# Altium footprint library Capacitors.PcbLib: 10 footprints
Each footprint in its own frame and in the unit in brackets; x right, y up, seen from the top. Pads: shape width x height; smd on the part's side, far side on the other; paste and mask are expansions set on the pad; w line width, h text height; cw(c..) or ccw(c..) is an arc to the next point about the centre after c.
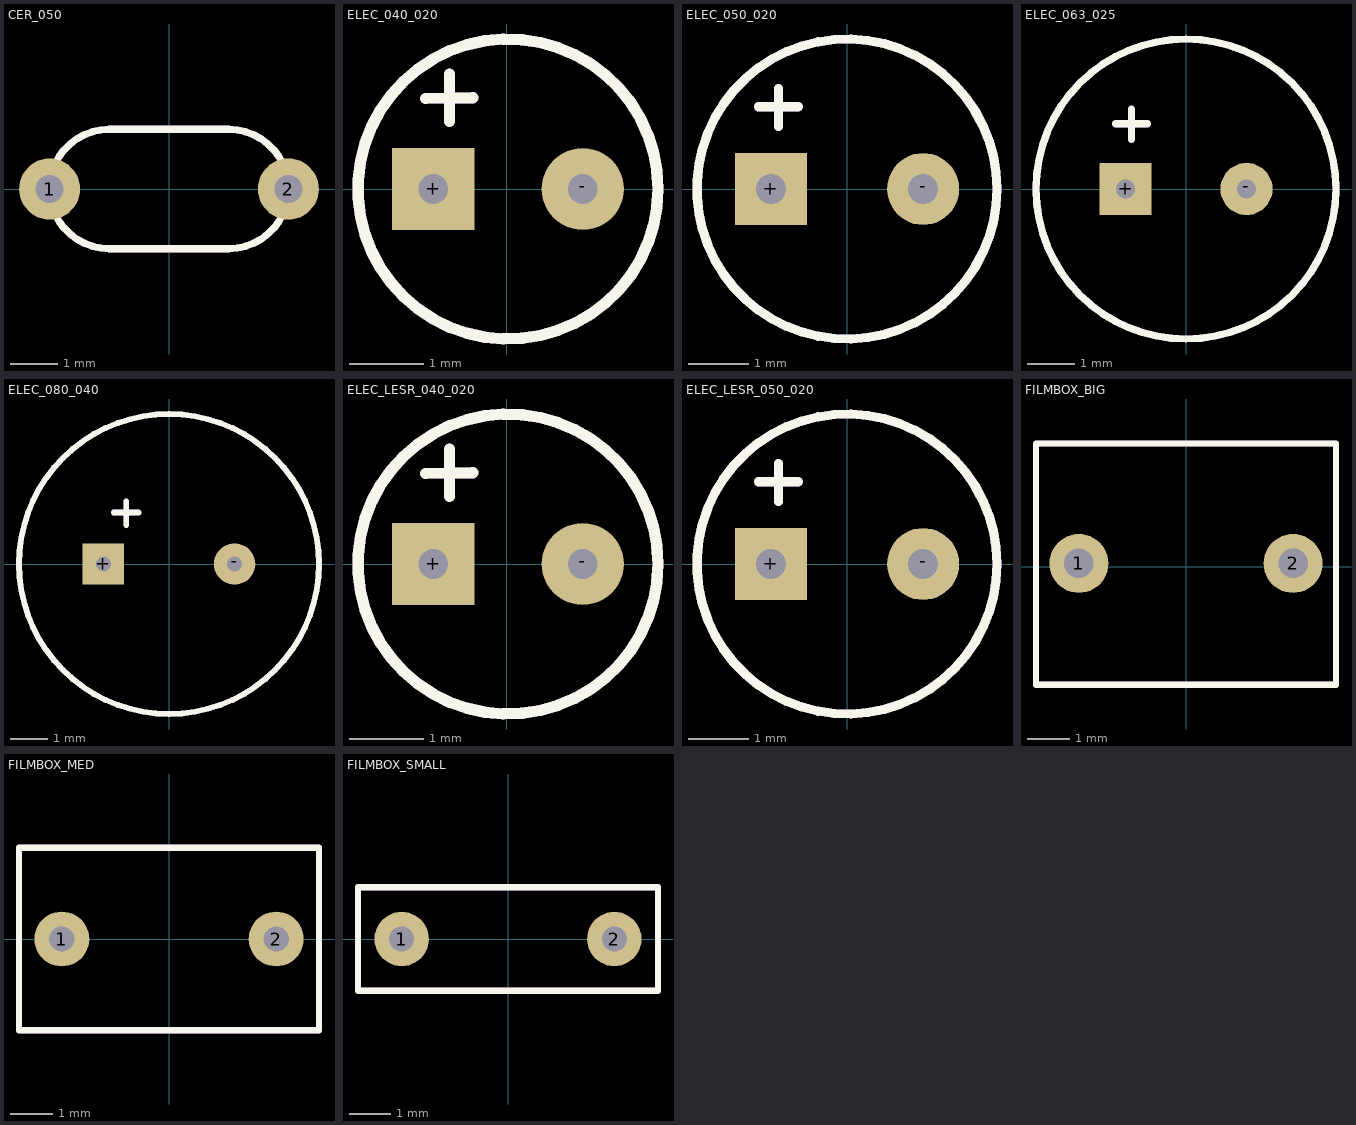
[diagram p0: the footprints below, top view; thin cyan lines are the x and y axes]

## CER_050 [mm]
pads (2):
  round 1.3 hole 0.6: 1(-2.54,0) 2(2.54,0)
Top Overlay:
  lines w0.152: -2.54,0 cw(c-1.27,0) -1.27,1.27 1.27,1.27 cw(c1.27,0) 2.54,0 cw(c1.27,0) 1.27,-1.27 0.635,-1.27 -1.27,-1.27 cw(c-1.27,0) -2.54,0
Mechanical 2:
  lines w0.152: -2.54,0 ccw(c-1.27,0) -1.27,-1.27 0.635,-1.27 1.27,-1.27 ccw(c1.27,0) 2.54,0 ccw(c1.27,0) 1.27,1.27 -1.27,1.27 ccw(c-1.27,0) -2.54,0
3D body: height 0.25, standoff 0, extent -2.972,1.676 -2.972,1.676
3D body: height 0.25, standoff 0, extent -2.591,1.27 -2.591,1.27
3D body "CER_050.STEP": height 4.98, standoff -4.02, extent -2.8,-1.25 2.8,1.25

## ELEC_040_020 [mil]
pads (2):
  rect 43.31x43.31 hole 15.75: +(-38.8,0)
  round 43.31 hole 15.75: -(40,0)
Top Overlay:
  circle w6: c0.6,0 r79.06
  lines w6: -42.73,47.72 -18.08,48 ; -30.25,35.58 -30.25,60.58
Mechanical 2:
  circle w6: c0.6,0 r79.06
  lines w6: -42.73,47.72 -18.08,48 ; -30.25,35.58 -30.25,60.58
3D body: height 10, standoff 0, extent -2.5,50 -2.5,50
3D body: height 10, standoff 0, extent -2.5,50 -2.5,50
3D body "ELEC_040_020.STEP": height 277.09, standoff -57.56, extent -78.71,-78.69 78.71,78.71

## ELEC_050_020 [mm]
pads (2):
  rect 1.2x1.2 hole 0.5: +(-1.27,0)
  round 1.2 hole 0.5: -(1.27,0)
Top Overlay:
  circle w0.152: c0,0 r2.5
  lines w0.152: -1.473,1.372 -0.813,1.372 ; -1.143,1.041 -1.143,1.676
Mechanical 2:
  circle w0.152: c0,0 r2.5
  lines w0.152: -1.473,1.372 -0.813,1.372 ; -1.143,1.041 -1.143,1.676
3D body "ELEC_050_020.STEP": height 7.04, standoff -1.46, extent -2.499,-2.497 2.499,2.5

## ELEC_063_025 [mm]
pads (2):
  rect 1.1x1.1 hole 0.4: +(-1.27,0)
  round 1.1 hole 0.4: -(1.27,0)
Top Overlay:
  circle w0.152: c0,0 r3.15
  lines w0.152: -1.473,1.372 -0.813,1.372 ; -1.143,1.041 -1.143,1.676
Mechanical 2:
  circle w0.152: c0,0 r3.15
  lines w0.152: -1.473,1.372 -0.813,1.372 ; -1.143,1.041 -1.143,1.676
3D body "ELEC_063_025.STEP": height 7.99, standoff -1.51, extent -2.999,-2.999 2.999,2.998

## ELEC_080_040 [mm]
pads (2):
  rect 1.1x1.1 hole 0.4: +(-1.75,0)
  round 1.1 hole 0.4: -(1.75,0)
Top Overlay:
  circle w0.152: c0,0 r4
  lines w0.152: -1.473,1.372 -0.813,1.372 ; -1.143,1.041 -1.143,1.676
Mechanical 2:
  circle w0.152: c0,0 r4
  lines w0.152: -1.473,1.372 -0.813,1.372 ; -1.143,1.041 -1.143,1.676
3D body "ELEC_080_040.STEP": height 11.5, standoff -3, extent -4.001,-3.997 4,3.998

## ELEC_LESR_040_020 [mil]
pads (2):
  rect 43.31x43.31 hole 15.75: +(-38.8,0)
  round 43.31 hole 15.75: -(40,0)
Top Overlay:
  circle w6: c0.6,0 r79.06
  lines w6: -42.73,47.72 -18.08,48 ; -30.25,35.58 -30.25,60.58
Mechanical 2:
  circle w6: c0.6,0 r79.06
  lines w6: -42.73,47.72 -18.08,48 ; -30.25,35.58 -30.25,60.58
3D body "ELEC_LESR_040_020.STEP": height 277.09, standoff -57.56, extent -78.71,-78.69 78.71,78.71
3D body: height 10, standoff 0, extent -2.5,50 -2.5,50
3D body: height 10, standoff 0, extent -2.5,50 -2.5,50

## ELEC_LESR_050_020 [mm]
pads (2):
  rect 1.2x1.2 hole 0.5: +(-1.27,0)
  round 1.2 hole 0.5: -(1.27,0)
Top Overlay:
  circle w0.152: c0,0 r2.5
  lines w0.152: -1.473,1.372 -0.813,1.372 ; -1.143,1.041 -1.143,1.676
Mechanical 2:
  circle w0.152: c0,0 r2.5
  lines w0.152: -1.473,1.372 -0.813,1.372 ; -1.143,1.041 -1.143,1.676
3D body "ELEC_LESR_050_020.STEP": height 11.01, standoff -1.49, extent -2.499,-2.497 2.499,2.5
3D body: height 0.25, standoff 0, extent -2.413,2.54 1.524,2.54

## FILMBOX_BIG [mil]
pads (2):
  round 55.12 hole 27.56: 1(-100,3) 2(100,3)
Top Overlay:
  lines w6: -140,-110 -140,115 140,115 140,-110 -140,-110
Mechanical 2:
  lines w6: -140,-110 -140,115 140,115 140,-110 -140,-110
3D body "BOX_BIG.STEP": height 452.76, standoff -98.43, extent -141.68,-105.26 141.79,111.27

## FILMBOX_MED [mm]
pads (2):
  round 1.3 hole 0.6: 1(-2.54,0) 2(2.54,0)
Top Overlay:
  lines w0.152: -3.556,-2.159 -3.556,2.159 3.556,2.159 3.556,-2.159 -3.556,-2.159
Mechanical 2:
  lines w0.152: -3.556,-2.159 -3.556,2.159 3.556,2.159 3.556,-2.159 -3.556,-2.159
3D body "BOX_MED.STEP": height 9.5, standoff -2.5, extent -3.599,-2.25 3.601,2.25

## FILMBOX_SMALL [mm]
pads (2):
  round 1.3 hole 0.6: 1(-2.54,0) 2(2.54,0)
Top Overlay:
  lines w0.152: -3.583,-1.24 -3.583,1.24 3.583,1.24 3.583,-1.24 -3.583,-1.24
Mechanical 2:
  lines w0.152: -3.583,-1.24 -3.583,1.24 3.583,1.24 3.583,-1.24 -3.583,-1.24
3D body "BOX_SMALL.STEP": height 6.5, standoff -2.5, extent -3.6,-1.23 3.6,1.27
3D body: height 0.25, standoff 0, extent -2.54,0 -2.54,0